# EAGLE library part XBEEPRO (library xbee)
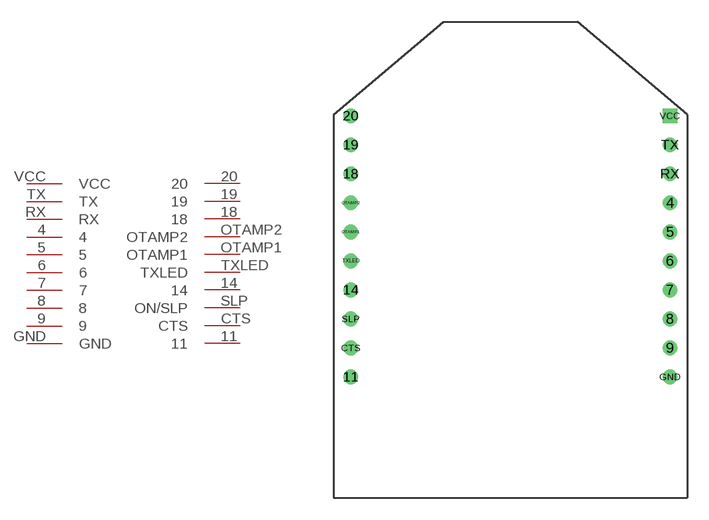
[diagram p1: symbol with the pads of XBEEPRO; footprint XBEEPRO]

Designator prefix -

## XBEEPRO  [XBEEPRO]
4  4
5  5
6  6
7  7
8  8
9  9
11  11
14  14
18  18
19  19
20  20
CTS  CTS
GND  GND
OTAMP1  OTAMP1
OTAMP2  OTAMP2
RX  RX
SLP  ON/SLP
TX  TX
TXLED  TXLED
VCC  VCC

## Footprint XBEEPRO (pad centres in mm)
drill 0.51: 4 11,4.5; 5 11,2.5; 6 11,0.5; 7 11,-1.5; 8 11,-3.5; 9 11,-5.5; 11 -11,-7.5; 14 -11,-1.5; 18 -11,6.5; 19 -11,8.5; 20 -11,10.5; CTS -11,-5.5; GND 11,-7.5; OTAMP1 -11,2.5; OTAMP2 -11,4.5; RX 11,6.5; SLP -11,-3.5; TX 11,8.5; TXLED -11,0.5
drill 0.51 square: VCC 11,10.5